# EAGLE library part F2X3 (library J-HDR2.54mm)
FEMALE HEADER 2X3POS
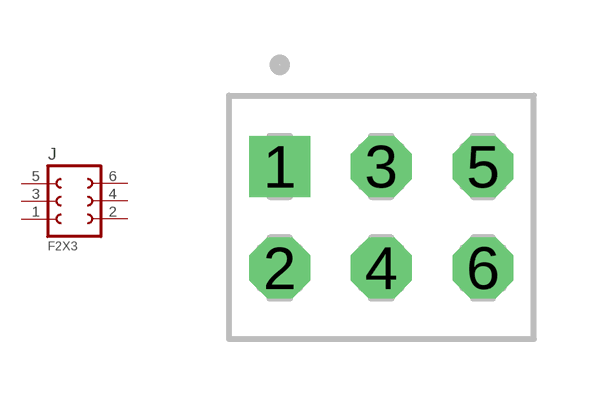
[diagram p12: symbol with the pads of F2X3; footprint F2X3]

Designator prefix J

## F2X3  [F2X3]
1  1  pas
2  2  pas
3  3  pas
4  4  pas
5  5  pas
6  6  pas

## Footprint F2X3 (pad centres in mm)
drill 1.016 square: 1 0,0
drill 1.016 octagon: 2 0,-2.54; 3 2.54,0; 4 2.54,-2.54; 5 5.08,0; 6 5.08,-2.54